# Altium schematic symbol library Orient, AMC0802BR-B-B6WTDW-I2C.SchLib: 1 symbol
Pins are listed as number, name and electrical type; pins without a type are passive.

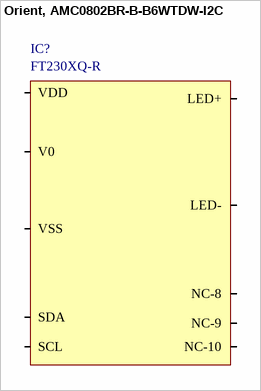
[diagram p0: symbol Orient, AMC0802BR-B-B6WTDW-I2C]

## Orient, AMC0802BR-B-B6WTDW-I2C
designator IC?  Manufacturer Part number: FT230XQ-R  (hidden comment: *)
IC,Interface,FTDI,QFN16; component category: capacitor*; ComponentLink1Description: datasheet; ComponentLink1URL: *; ComponentLink2Description: supplier link; ComponentLink2URL: *; component type: ceramic; supplier link: *; supplier currency: *; price,max: *; price,min: *; Quantity,max: *; Quantity,min: *; Operating Temparature,max: +85; Operating Temparature,min: -40; Supplier Part number: *; Supplier: Digikey; Manufacturer: FTDI; Package: Custom
footprint Orient, AMC0802BR-B-B6WTDW-I2C
pins: LED+, LED-, NC-8, NC-9, NC-10, SCL, SDA, V0, VDD, VSS